# EAGLE library part ASPIRIN (library aspirin)
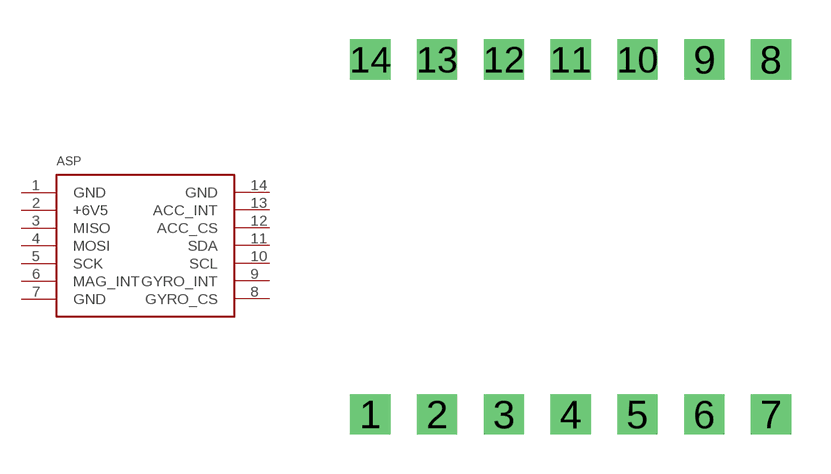
[diagram p7: symbol with the pads of ASPIRIN_CASTELLATED; footprint ASPIRIN_CASTELLATED]

Designator prefix ASP

## ASPIRIN  [ASPIRIN_CASTELLATED]
1  GND
2  +6V5
3  MISO
4  MOSI
5  SCK
6  MAG_INT
7  GND
8  GYRO_CS
9  GYRO_INT
10  SCL
11  SDA
12  ACC_CS
13  ACC_INT
14  GND

## Footprint ASPIRIN_CASTELLATED (pad centres in mm)
drill 1.016 square: 1 0,0; 2 2.54,0; 3 5.08,0; 4 7.62,0; 5 10.16,0; 6 12.7,0; 7 15.24,0; 8 15.24,13.5; 9 12.7,13.5; 10 10.16,13.5; 11 7.62,13.5; 12 5.08,13.5; 13 2.54,13.5; 14 0,13.5